# Altium integrated library Connectors.IntLib: 3 symbols
Pins are listed as number, name and electrical type; pins without a type are passive.

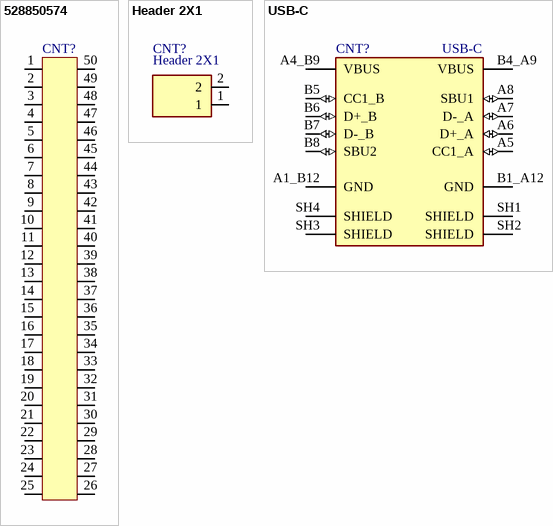
[diagram p0: symbols 528850574 to USB-C]

## 528850574
designator CNT?  (value not drawn)
CONN RCPT 50POS SMD GOLD; Manufacturer: Molex; Gender: Female; ComponentLink1Description: DigiKey; ComponentLink1URL: https://www.digikey.com/es/products/detail/molex/0528850574/3197085?s=N4IgTCBcDaIAQFYwA5kIAwIOwBYQF0BfIA; ComponentLink2Description: DataSheet; ComponentLink2URL: https://www.molex.com/en-us/products/part-detail/528850574?display=pdf; PinCount: 50
footprint 528850574 (Connector 50 pins)
pins: 1, 2, 3, 4, 5, 6, 7, 8, 9, 10, 11, 12, 13, 14, 15, 16, 17, 18, 19, 20, 21, 22, 23, 24, 25, 26, 27, 28, 29, 30, 31, 32, 33, 34, 35, 36, 37, 38, 39, 40, 41, 42, 43, 44, 45, 46, 47, 48, 49, 50

## Header 2X1
designator CNT?
Connector Header Surface Mount 2 position 0.200" (5.08mm); Manufacturer: Samtec; PartNumber: HPM-02-01-T-S; Position2: 2; ComponentLink1Description: DigiKey; ComponentLink1URL: https://www.digikey.com/en/products/detail/samtec-inc/HPM-02-01-T-S/6678234; ComponentLink2Description: ProductPage; ComponentLink2URL: https://www.samtec.com/products/hpm-02-01-t-s-vs
footprint Header 2X1
pins: 1, 2

## USB-C
designator CNT?
CONN USB2.0, TYP C, 24 PINS (16+8 DUMMY), SMD, RIGHT ANGLE; ComponentLink1Description: DigiKey; ComponentLink1URL: https://www.digikey.com/en/products/detail/amphenol-cs-commercial-products/12402012E212A/13683192; ComponentLink2Description: DataSheet; ComponentLink2URL: https://mm.digikey.com/Volume0/opasdata/d220001/medias/docus/2614/C12402012-4.pdf; Type: C 2.0; Pins: 24 (16+8 DUMMY)
footprint USB-C 2.0 24 PINS (16+8 DUMMY)
pins: A1_B12 GND (power), A4_B9 VBUS (power), A5 CC1_A (io), A6 D+_A (io), A7 D-_A (io), A8 SBU1 (io), B1_A12 GND (power), B4_A9 VBUS (power), B5 CC1_B (io), B6 D+_B (io), B7 D-_B (io), B8 SBU2 (io), SH1 SHIELD, SH2 SHIELD, SH3 SHIELD, SH4 SHIELD